# Altium integrated library TI Data Converters Analog to Digital Converter.IntLib: 2198 symbols (part 22 of 164)
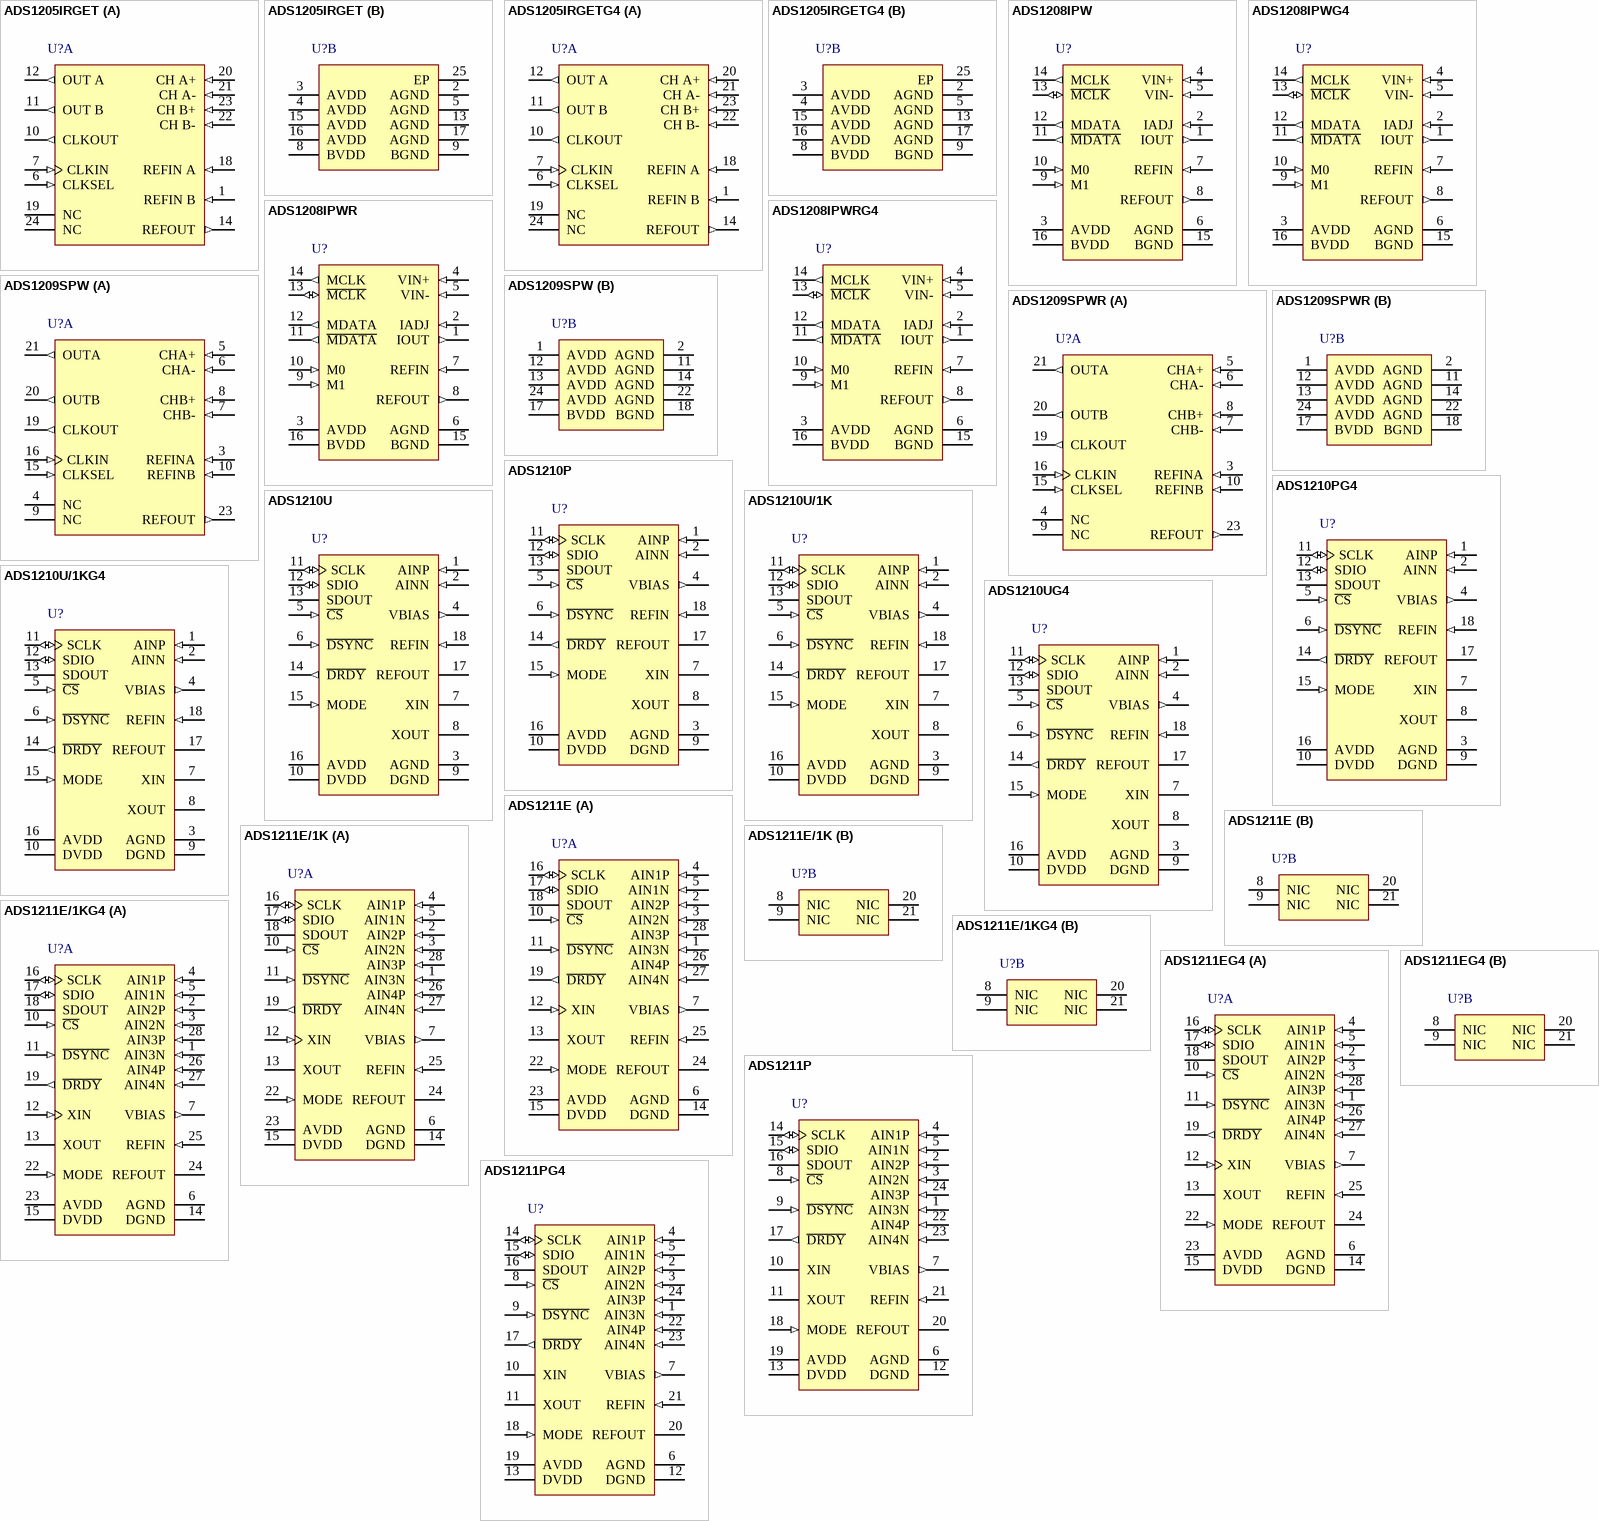
[diagram p147: symbols ADS1205IRGET to ADS1211PG4]

## ADS1208IPWG4
designator U?
10 MHz Modulator with Built in Current Excitation for Hall Sensor, -40 to 85 degC, 16-pin SOP (PW16), Green (RoHS & no Sb/Br); Manufacturer: Texas Instruments; PartNumber: ADS1208IPWG4; # Input Channels: 1; Analog Voltage AV/DD(Max)(V): 5.5; Analog Voltage AV/DD(Min)(V): 4.5; Architecture: Delta-Sigma, Modulator; Digital Supply(Min)(V): 2.7; INL(Max)(+/-LSB): 8; Resolution(Bits): 16; Sample Rate (max)(SPS): 40k; SFDR(dB): 93; SINAD(dB): 81.5; SNR(dB): 82; SubFamily: Precision ADC (<=10MSPS); DatasheetVersion: SBAS348A; PackageVersion: 4040064-4/G, 02/2011; PackageReference: PW16; PackageDescription: 16-Pin Plastic Small Outline, Body 5 x 4.4 mm, Pitch 0.65 mm; Supplier 1: Digi-Key; Supplier Part Number 1: TLV2556IDWRG4-ND; Digital Supply(Max)(V): 5.5; Eco-Plan: Green (RoHS & no Sb/Br); Mounting Technology: Surface Mount; Code_JEDEC: MO-153; ComponentLink1Description: Manufacturer URL; ComponentLink1URL: http://www.ti.com/; ComponentLink2Description: Datasheet; ComponentLink2URL: http://www.ti.com/general/docs/lit/getliterature.tsp?genericPartNumber=ADS1208&fileType=pdf; ComponentLink3Description: Package Specification; ComponentLink3URL: http://www.ti.com/lit/ml/mpds361/mpds361.pdf
footprint TI-PW16_N (SOP, 16-Leads, Body 5x4.4mm, Pitch 0.65mm, IPC Medium Density)
footprint TI-PW16_L (SOP, 16-Leads, Body 5x4.4mm, Pitch 0.65mm, IPC High Density)
footprint TI-PW16_M (SOP, 16-Leads, Body 5x4.4mm, Pitch 0.65mm, IPC Low Density)
pins: 1 IOUT (out) "Current output for sensor", 2 IADJ (in) "Output current adjustment", 3 AVDD (power) "Analog supply", 4 VIN+ (in) "Positive input", 5 VIN- (in) "Negative input", 6 AGND (power) "Analog ground", 7 REFIN (in) "Reference input", 8 REFOUT (out) "Reference output", 9 M1 (in) "Mode selection input", 10 M0 (in) "Mode selection input", 11 ~{MDATA} (out) "Inverted data output", 12 MDATA (out) "Noninverted data output", 13 ~{MCLK} (io) "Inverted clock output (Modes 0, 1); Clock input (Mode 3)", 14 MCLK (out) "Noninverted clock output", 15 BGND (power) "Digital interface ground", 16 BVDD (power) "Digital interface supply (2.7V to 5.5V)"

## ADS1208IPWR
designator U?
10 MHz Modulator with Built in Current Excitation for Hall Sensor, -40 to 85 degC, 16-pin SOP (PW16), Green (RoHS & no Sb/Br); Manufacturer: Texas Instruments; PartNumber: ADS1208IPWR; # Input Channels: 1; Analog Voltage AV/DD(Max)(V): 5.5; Analog Voltage AV/DD(Min)(V): 4.5; Architecture: Delta-Sigma, Modulator; Digital Supply(Min)(V): 2.7; INL(Max)(+/-LSB): 8; Resolution(Bits): 16; Sample Rate (max)(SPS): 40k; SFDR(dB): 93; SINAD(dB): 81.5; SNR(dB): 82; SubFamily: Precision ADC (<=10MSPS); DatasheetVersion: SBAS348A; PackageVersion: 4040064-4/G, 02/2011; PackageReference: PW16; PackageDescription: 16-Pin Plastic Small Outline, Body 5 x 4.4 mm, Pitch 0.65 mm; Supplier 1: Digi-Key; Supplier Part Number 1: 296-10296-5-ND; Digital Supply(Max)(V): 5.5; Eco-Plan: Green (RoHS & no Sb/Br); Mounting Technology: Surface Mount; Code_JEDEC: MO-153; ComponentLink1Description: Manufacturer URL; ComponentLink1URL: http://www.ti.com/; ComponentLink2Description: Datasheet; ComponentLink2URL: http://www.ti.com/general/docs/lit/getliterature.tsp?genericPartNumber=ADS1208&fileType=pdf; ComponentLink3Description: Package Specification; ComponentLink3URL: http://www.ti.com/lit/ml/mpds361/mpds361.pdf
footprint TI-PW16_N (SOP, 16-Leads, Body 5x4.4mm, Pitch 0.65mm, IPC Medium Density)
footprint TI-PW16_L (SOP, 16-Leads, Body 5x4.4mm, Pitch 0.65mm, IPC High Density)
footprint TI-PW16_M (SOP, 16-Leads, Body 5x4.4mm, Pitch 0.65mm, IPC Low Density)
pins: 1 IOUT (out) "Current output for sensor", 2 IADJ (in) "Output current adjustment", 3 AVDD (power) "Analog supply", 4 VIN+ (in) "Positive input", 5 VIN- (in) "Negative input", 6 AGND (power) "Analog ground", 7 REFIN (in) "Reference input", 8 REFOUT (out) "Reference output", 9 M1 (in) "Mode selection input", 10 M0 (in) "Mode selection input", 11 ~{MDATA} (out) "Inverted data output", 12 MDATA (out) "Noninverted data output", 13 ~{MCLK} (io) "Inverted clock output (Modes 0, 1); Clock input (Mode 3)", 14 MCLK (out) "Noninverted clock output", 15 BGND (power) "Digital interface ground", 16 BVDD (power) "Digital interface supply (2.7V to 5.5V)"

## ADS1208IPWRG4
designator U?
10 MHz Modulator with Built in Current Excitation for Hall Sensor, -40 to 85 degC, 16-pin SOP (PW16), Green (RoHS & no Sb/Br); Manufacturer: Texas Instruments; PartNumber: ADS1208IPWRG4; # Input Channels: 1; Analog Voltage AV/DD(Max)(V): 5.5; Analog Voltage AV/DD(Min)(V): 4.5; Architecture: Delta-Sigma, Modulator; Digital Supply(Min)(V): 2.7; INL(Max)(+/-LSB): 8; Resolution(Bits): 16; Sample Rate (max)(SPS): 40k; SFDR(dB): 93; SINAD(dB): 81.5; SNR(dB): 82; SubFamily: Precision ADC (<=10MSPS); DatasheetVersion: SBAS348A; PackageVersion: 4040064-4/G, 02/2011; PackageReference: PW16; PackageDescription: 16-Pin Plastic Small Outline, Body 5 x 4.4 mm, Pitch 0.65 mm; Supplier 1: Digi-Key; Supplier Part Number 1: TLC3574IDWG4-ND; Digital Supply(Max)(V): 5.5; Eco-Plan: Green (RoHS & no Sb/Br); Mounting Technology: Surface Mount; Code_JEDEC: MO-153; ComponentLink1Description: Manufacturer URL; ComponentLink1URL: http://www.ti.com/; ComponentLink2Description: Datasheet; ComponentLink2URL: http://www.ti.com/general/docs/lit/getliterature.tsp?genericPartNumber=ADS1208&fileType=pdf; ComponentLink3Description: Package Specification; ComponentLink3URL: http://www.ti.com/lit/ml/mpds361/mpds361.pdf
footprint TI-PW16_N (SOP, 16-Leads, Body 5x4.4mm, Pitch 0.65mm, IPC Medium Density)
footprint TI-PW16_L (SOP, 16-Leads, Body 5x4.4mm, Pitch 0.65mm, IPC High Density)
footprint TI-PW16_M (SOP, 16-Leads, Body 5x4.4mm, Pitch 0.65mm, IPC Low Density)
pins: 1 IOUT (out) "Current output for sensor", 2 IADJ (in) "Output current adjustment", 3 AVDD (power) "Analog supply", 4 VIN+ (in) "Positive input", 5 VIN- (in) "Negative input", 6 AGND (power) "Analog ground", 7 REFIN (in) "Reference input", 8 REFOUT (out) "Reference output", 9 M1 (in) "Mode selection input", 10 M0 (in) "Mode selection input", 11 ~{MDATA} (out) "Inverted data output", 12 MDATA (out) "Noninverted data output", 13 ~{MCLK} (io) "Inverted clock output (Modes 0, 1); Clock input (Mode 3)", 14 MCLK (out) "Noninverted clock output", 15 BGND (power) "Digital interface ground", 16 BVDD (power) "Digital interface supply (2.7V to 5.5V)"

## ADS1209SPW
designator U?
1-Bit, 10 MHz, 2nd-Order Delta-Sigma Modulators with +/- 2.3 V Specified Input Range, -40 to 105 degC, 24-pin SOP (PW24), Green (RoHS & no Sb/Br); Manufacturer: Texas Instruments; PartNumber: ADS1209SPW; # Input Channels: 2; Analog Voltage AV/DD(Max)(V): 5.5; Analog Voltage AV/DD(Min)(V): 4.5; Architecture: Delta-Sigma, Modulator; Digital Supply(Min)(V): 2.7; ENOB(Bits): 14; INL(Max)(+/-LSB): 8; Resolution(Bits): 16; Sample Rate (max)(SPS): 40k; SFDR(dB): 86; SINAD(dB): 84; SNR(dB): 90; SubFamily: Precision ADC (<=10MSPS); DatasheetVersion: SBAS491; PackageVersion: 4040064-6/G, 02/2011; PackageReference: PW24; PackageDescription: 24-Pin Plastic Small Outline, Body 7.8 x 4.4 mm, Pitch 0.65 mm; Supplier 1: Digi-Key; Supplier Part Number 1: 296-31963-2-ND; Digital Supply(Max)(V): 5.5; Eco-Plan: Green (RoHS & no Sb/Br); Mounting Technology: Surface Mount; Code_JEDEC: MO-153; ComponentLink1Description: Manufacturer URL; ComponentLink1URL: http://www.ti.com/; ComponentLink2Description: Datasheet; ComponentLink2URL: http://www.ti.com/general/docs/lit/getliterature.tsp?genericPartNumber=ADS1209&fileType=pdf; ComponentLink3Description: Package Specification; ComponentLink3URL: http://www.ti.com/litv/pdf/mpds363
footprint TI-PW24_N (SOP, 24-Leads, Body 7.8x4.4mm, Pitch 0.65mm, IPC Medium Density)
footprint TI-PW24_L (SOP, 24-Leads, Body 7.8x4.4mm, Pitch 0.65mm, IPC High Density)
footprint TI-PW24_M (SOP, 24-Leads, Body 7.8x4.4mm, Pitch 0.65mm, IPC Low Density)
part A pins: 3 REFINA (in) "Reference voltage input for channel A", 4 NC "This pin is not internally connected", 5 CHA+ (in) "Fully differential noninverting analog input channel A", 6 CHA- (in) "Fully differential inverting analog input channel A", 7 CHB- (in) "Fully differential inverting analog input channel B", 8 CHB+ (in) "Fully differential noninverting analog input channel B", 9 NC "This pin is not internally connected", 10 REFINB (in) "Reference voltage input for channel B", 15 CLKSEL (in) "Clock select input. When this pin is low, an external clock source at CLKIN is used. When high, the internal RC oscillator is used as clock source.", 16 CLKIN (in) "External clock input. Must be tied to BVDD or BGND, if not used.", 19 CLKOUT (out) "Bit stream clock output", 20 OUTB (out) "Bit stream data output of channel B modulator", 21 OUTA (out) "Bit stream data output of channel A modulator", 23 REFOUT (out) "Internal reference voltage output, nominal: 2.5V. Decouple to AGND with a 0.1uF ceramic capacitor."
part B pins: 1 AVDD (power) "Analog power supply; nominal 5V. Decouple to AGND with a 0.1uF ceramic capacitor.", 2 AGND (power) "Analog ground. Connect to analog ground plane.", 11 AGND (power) "Analog ground. Connect to analog ground plane.", 12 AVDD (power) "Analog power supply; nominal 5V. Decouple to AGND with a 0.1uF ceramic capacitor.", 13 AVDD (power) "Analog power supply; nominal 5V. Decouple to AGND with a 0.1uF ceramic capacitor.", 14 AGND (power) "Analog ground. Connect to analog ground plane.", 17 BVDD (power) "I/O buffer power supply, nominal: 3V. Decouple to BGND with a 0.1uF ceramic capacitor", 18 BGND (power) "I/O buffer ground. Connect to digital ground plane", 22 AGND (power) "Analog ground. Connect to analog ground plane.", 24 AVDD (power) "Analog power supply, nominal: 5V. Decouple to AGND with a 0.1uF ceramic capacitor."

## ADS1209SPWR
designator U?
1-Bit, 10 MHz, 2nd-Order Delta-Sigma Modulators with +/- 2.3 V Specified Input Range, -40 to 105 degC, 24-pin SOP (PW24), Green (RoHS & no Sb/Br); Manufacturer: Texas Instruments; PartNumber: ADS1209SPWR; # Input Channels: 2; Analog Voltage AV/DD(Max)(V): 5.5; Analog Voltage AV/DD(Min)(V): 4.5; Architecture: Delta-Sigma, Modulator; Digital Supply(Min)(V): 2.7; ENOB(Bits): 14; INL(Max)(+/-LSB): 8; Resolution(Bits): 16; Sample Rate (max)(SPS): 40k; SFDR(dB): 86; SINAD(dB): 84; SNR(dB): 90; SubFamily: Precision ADC (<=10MSPS); DatasheetVersion: SBAS491; PackageVersion: 4040064-6/G, 02/2011; PackageReference: PW24; PackageDescription: 24-Pin Plastic Small Outline, Body 7.8 x 4.4 mm, Pitch 0.65 mm; Supplier 1: Digi-Key; Supplier Part Number 1: TLC3574IDWRG4-ND; Digital Supply(Max)(V): 5.5; Eco-Plan: Green (RoHS & no Sb/Br); Mounting Technology: Surface Mount; Code_JEDEC: MO-153; ComponentLink1Description: Manufacturer URL; ComponentLink1URL: http://www.ti.com/; ComponentLink2Description: Datasheet; ComponentLink2URL: http://www.ti.com/general/docs/lit/getliterature.tsp?genericPartNumber=ADS1209&fileType=pdf; ComponentLink3Description: Package Specification; ComponentLink3URL: http://www.ti.com/litv/pdf/mpds363
footprint TI-PW24_N (SOP, 24-Leads, Body 7.8x4.4mm, Pitch 0.65mm, IPC Medium Density)
footprint TI-PW24_L (SOP, 24-Leads, Body 7.8x4.4mm, Pitch 0.65mm, IPC High Density)
footprint TI-PW24_M (SOP, 24-Leads, Body 7.8x4.4mm, Pitch 0.65mm, IPC Low Density)
part A pins: 3 REFINA (in) "Reference voltage input for channel A", 4 NC "This pin is not internally connected", 5 CHA+ (in) "Fully differential noninverting analog input channel A", 6 CHA- (in) "Fully differential inverting analog input channel A", 7 CHB- (in) "Fully differential inverting analog input channel B", 8 CHB+ (in) "Fully differential noninverting analog input channel B", 9 NC "This pin is not internally connected", 10 REFINB (in) "Reference voltage input for channel B", 15 CLKSEL (in) "Clock select input. When this pin is low, an external clock source at CLKIN is used. When high, the internal RC oscillator is used as clock source.", 16 CLKIN (in) "External clock input. Must be tied to BVDD or BGND, if not used.", 19 CLKOUT (out) "Bit stream clock output", 20 OUTB (out) "Bit stream data output of channel B modulator", 21 OUTA (out) "Bit stream data output of channel A modulator", 23 REFOUT (out) "Internal reference voltage output, nominal: 2.5V. Decouple to AGND with a 0.1uF ceramic capacitor."
part B pins: 1 AVDD (power) "Analog power supply; nominal 5V. Decouple to AGND with a 0.1uF ceramic capacitor.", 2 AGND (power) "Analog ground. Connect to analog ground plane.", 11 AGND (power) "Analog ground. Connect to analog ground plane.", 12 AVDD (power) "Analog power supply; nominal 5V. Decouple to AGND with a 0.1uF ceramic capacitor.", 13 AVDD (power) "Analog power supply; nominal 5V. Decouple to AGND with a 0.1uF ceramic capacitor.", 14 AGND (power) "Analog ground. Connect to analog ground plane.", 17 BVDD (power) "I/O buffer power supply, nominal: 3V. Decouple to BGND with a 0.1uF ceramic capacitor", 18 BGND (power) "I/O buffer ground. Connect to digital ground plane", 22 AGND (power) "Analog ground. Connect to analog ground plane.", 24 AVDD (power) "Analog power supply, nominal: 5V. Decouple to AGND with a 0.1uF ceramic capacitor."

## ADS1210P
designator U?
24-Bit ADC, -40 to 85 degC, 18-pin DIP (N18), Green (RoHS & no Sb/Br); Manufacturer: Texas Instruments; PartNumber: ADS1210P; # Input Channels: 1; Analog Voltage AV/DD(Max)(V): 5.25; Analog Voltage AV/DD(Min)(V): 4.75; Architecture: Delta-Sigma; Interface: Serial SPI; Resolution(Bits): 24; Sample Rate (max)(SPS): 16k; SubFamily: Isolated ADC; DatasheetVersion: SBAS034B; PackageVersion: 4040049/E, 12/2002; PackageReference: N18; PackageDescription: 18-Pin Plastic In-Line, Body 22.48 x 6.35 mm, Pitch 2.54 mm; Supplier 1: Digi-Key; Supplier Part Number 1: 296-10255-5-ND; Digital Supply(Max)(V): 5.25; Digital Supply(Min)(V): 4.75; Eco-Plan: Green (RoHS & no Sb/Br); Mounting Technology: Through Hole; Code_JEDEC: MS-001; ComponentLink1Description: Manufacturer URL; ComponentLink1URL: http://www.ti.com/; ComponentLink2Description: Datasheet; ComponentLink2URL: http://www.ti.com/general/docs/lit/getliterature.tsp?genericPartNumber=ADS1210&fileType=pdf; ComponentLink3Description: Package Specification; ComponentLink3URL: http://www.ti.com/lit/ml/mpdi002c/mpdi002c.pdf
footprint TI-N18 (DIP, 18-Leads, Body 22.48x6.35 mm, Pitch 2.54 mm)
pins: 1 AINP (in) "Noninverting Input.", 2 AINN (in) "Inverting Input.", 3 AGND (power) "Analog Ground.", 4 VBIAS (out) "Bias Voltage Output, +3.3V nominal.", 5 ~{CS} (in) "Chip Select Input.", 6 ~{DSYNC} (in) "Control Input to Synchronize Serial Output Data.", 7 XIN "System Clock Input.", 8 XOUT "System Clock Output.", 9 DGND (power) "Digital Ground.", 10 DVDD (power) "Digital Supply, +5V nominal.", 11 SCLK (io) "Clock Input/Output for serial data transfer.", 12 SDIO (io) "Serial Data Input (can also function as Serial Data Output).", 13 SDOUT (hiz) "Serial Data Output.", 14 ~{DRDY} (out) "Data Ready.", 15 MODE (in) "SCLK Control Input (Master = 1, Slave = 0).", 16 AVDD (power) "Analog Supply, +5V nominal.", 17 REFOUT (hiz) "Reference Output, +2.5V nominal.", 18 REFIN (in) "Reference Input."

## ADS1210PG4
designator U?
24-Bit ADC, -40 to 85 degC, 18-pin DIP (N18), Green (RoHS & no Sb/Br); Manufacturer: Texas Instruments; PartNumber: ADS1210PG4; # Input Channels: 1; Analog Voltage AV/DD(Max)(V): 5.25; Analog Voltage AV/DD(Min)(V): 4.75; Architecture: Delta-Sigma; Interface: Serial SPI; Resolution(Bits): 24; Sample Rate (max)(SPS): 16k; SubFamily: Isolated ADC; DatasheetVersion: SBAS034B; PackageVersion: 4040049/E, 12/2002; PackageReference: N18; PackageDescription: 18-Pin Plastic In-Line, Body 22.48 x 6.35 mm, Pitch 2.54 mm; Supplier 1: Digi-Key; Supplier Part Number 1: TLC2574IDWG4-ND; Digital Supply(Max)(V): 5.25; Digital Supply(Min)(V): 4.75; Eco-Plan: Green (RoHS & no Sb/Br); Mounting Technology: Through Hole; Code_JEDEC: MS-001; ComponentLink1Description: Manufacturer URL; ComponentLink1URL: http://www.ti.com/; ComponentLink2Description: Datasheet; ComponentLink2URL: http://www.ti.com/general/docs/lit/getliterature.tsp?genericPartNumber=ADS1210&fileType=pdf; ComponentLink3Description: Package Specification; ComponentLink3URL: http://www.ti.com/lit/ml/mpdi002c/mpdi002c.pdf
footprint TI-N18 (DIP, 18-Leads, Body 22.48x6.35 mm, Pitch 2.54 mm)
pins: 1 AINP (in) "Noninverting Input.", 2 AINN (in) "Inverting Input.", 3 AGND (power) "Analog Ground.", 4 VBIAS (out) "Bias Voltage Output, +3.3V nominal.", 5 ~{CS} (in) "Chip Select Input.", 6 ~{DSYNC} (in) "Control Input to Synchronize Serial Output Data.", 7 XIN "System Clock Input.", 8 XOUT "System Clock Output.", 9 DGND (power) "Digital Ground.", 10 DVDD (power) "Digital Supply, +5V nominal.", 11 SCLK (io) "Clock Input/Output for serial data transfer.", 12 SDIO (io) "Serial Data Input (can also function as Serial Data Output).", 13 SDOUT (hiz) "Serial Data Output.", 14 ~{DRDY} (out) "Data Ready.", 15 MODE (in) "SCLK Control Input (Master = 1, Slave = 0).", 16 AVDD (power) "Analog Supply, +5V nominal.", 17 REFOUT (hiz) "Reference Output, +2.5V nominal.", 18 REFIN (in) "Reference Input."

## ADS1210U
designator U?
24-Bit ADC, -40 to 85 degC, 18-pin SOP (DTC18), Green (RoHS & no Sb/Br); Manufacturer: Texas Instruments; PartNumber: ADS1210U; # Input Channels: 1; Analog Voltage AV/DD(Max)(V): 5.25; Analog Voltage AV/DD(Min)(V): 4.75; Architecture: Delta-Sigma; Interface: Serial SPI; Resolution(Bits): 24; Sample Rate (max)(SPS): 16k; SubFamily: Isolated ADC; DatasheetVersion: SBAS034B; PackageVersion: 4202498/A, 03/2001; PackageReference: DTC18; PackageDescription: 18-Pin Plastic Small Outline, Body 7.5 x 11.55 mm, Pitch 1.27 mm; Supplier 1: Digi-Key; Supplier Part Number 1: 296-34355-5-ND; Digital Supply(Max)(V): 5.25; Digital Supply(Min)(V): 4.75; Eco-Plan: Green (RoHS & no Sb/Br); Mounting Technology: Surface Mount; Code_JEDEC: MS-013-AB; ComponentLink1Description: Manufacturer URL; ComponentLink1URL: http://www.ti.com/; ComponentLink2Description: Datasheet; ComponentLink2URL: http://www.ti.com/general/docs/lit/getliterature.tsp?genericPartNumber=ADS1210&fileType=pdf; ComponentLink3Description: Package Specification; ComponentLink3URL: http://www.ti.com/litv/pdf/mpds095
footprint TI-DTC18_N (SOP, 18-Leads, Body 11.5x7.5mm, Pitch 1.27mm, IPC Medium Density)
footprint TI-DTC18_L (SOP, 18-Leads, Body 11.5x7.5mm, Pitch 1.27mm, IPC High Density)
footprint TI-DTC18_M (SOP, 18-Leads, Body 11.5x7.5mm, Pitch 1.27mm, IPC Low Density)
pins: 1 AINP (in) "Noninverting Input.", 2 AINN (in) "Inverting Input.", 3 AGND (power) "Analog Ground.", 4 VBIAS (out) "Bias Voltage Output, +3.3V nominal.", 5 ~{CS} (in) "Chip Select Input.", 6 ~{DSYNC} (in) "Control Input to Synchronize Serial Output Data.", 7 XIN "System Clock Input.", 8 XOUT "System Clock Output.", 9 DGND (power) "Digital Ground.", 10 DVDD (power) "Digital Supply, +5V nominal.", 11 SCLK (io) "Clock Input/Output for serial data transfer.", 12 SDIO (io) "Serial Data Input (can also function as Serial Data Output).", 13 SDOUT (hiz) "Serial Data Output.", 14 ~{DRDY} (out) "Data Ready.", 15 MODE (in) "SCLK Control Input (Master = 1, Slave = 0).", 16 AVDD (power) "Analog Supply, +5V nominal.", 17 REFOUT (hiz) "Reference Output, +2.5V nominal.", 18 REFIN (in) "Reference Input."

## ADS1210U/1K
designator U?
24-Bit ADC, -40 to 85 degC, 18-pin SOP (DTC18), Green (RoHS & no Sb/Br); Manufacturer: Texas Instruments; PartNumber: ADS1210U/1K; # Input Channels: 1; Analog Voltage AV/DD(Max)(V): 5.25; Analog Voltage AV/DD(Min)(V): 4.75; Architecture: Delta-Sigma; Interface: Serial SPI; Resolution(Bits): 24; Sample Rate (max)(SPS): 16k; SubFamily: Isolated ADC; DatasheetVersion: SBAS034B; PackageVersion: 4202498/A, 03/2001; PackageReference: DTC18; PackageDescription: 18-Pin Plastic Small Outline, Body 7.5 x 11.55 mm, Pitch 1.27 mm; Supplier 1: Digi-Key; Supplier Part Number 1: TLC3544CDWG4-ND; Digital Supply(Max)(V): 5.25; Digital Supply(Min)(V): 4.75; Eco-Plan: Green (RoHS & no Sb/Br); Mounting Technology: Surface Mount; Code_JEDEC: MS-013-AB; ComponentLink1Description: Manufacturer URL; ComponentLink1URL: http://www.ti.com/; ComponentLink2Description: Datasheet; ComponentLink2URL: http://www.ti.com/general/docs/lit/getliterature.tsp?genericPartNumber=ADS1210&fileType=pdf; ComponentLink3Description: Package Specification; ComponentLink3URL: http://www.ti.com/litv/pdf/mpds095
footprint TI-DTC18_N (SOP, 18-Leads, Body 11.5x7.5mm, Pitch 1.27mm, IPC Medium Density)
footprint TI-DTC18_L (SOP, 18-Leads, Body 11.5x7.5mm, Pitch 1.27mm, IPC High Density)
footprint TI-DTC18_M (SOP, 18-Leads, Body 11.5x7.5mm, Pitch 1.27mm, IPC Low Density)
pins: 1 AINP (in) "Noninverting Input.", 2 AINN (in) "Inverting Input.", 3 AGND (power) "Analog Ground.", 4 VBIAS (out) "Bias Voltage Output, +3.3V nominal.", 5 ~{CS} (in) "Chip Select Input.", 6 ~{DSYNC} (in) "Control Input to Synchronize Serial Output Data.", 7 XIN "System Clock Input.", 8 XOUT "System Clock Output.", 9 DGND (power) "Digital Ground.", 10 DVDD (power) "Digital Supply, +5V nominal.", 11 SCLK (io) "Clock Input/Output for serial data transfer.", 12 SDIO (io) "Serial Data Input (can also function as Serial Data Output).", 13 SDOUT (hiz) "Serial Data Output.", 14 ~{DRDY} (out) "Data Ready.", 15 MODE (in) "SCLK Control Input (Master = 1, Slave = 0).", 16 AVDD (power) "Analog Supply, +5V nominal.", 17 REFOUT (hiz) "Reference Output, +2.5V nominal.", 18 REFIN (in) "Reference Input."

## ADS1210U/1KG4
designator U?
24-Bit ADC, -40 to 85 degC, 18-pin SOP (DTC18), Green (RoHS & no Sb/Br); Manufacturer: Texas Instruments; PartNumber: ADS1210U/1KG4; # Input Channels: 1; Analog Voltage AV/DD(Max)(V): 5.25; Analog Voltage AV/DD(Min)(V): 4.75; Architecture: Delta-Sigma; Interface: Serial SPI; Resolution(Bits): 24; Sample Rate (max)(SPS): 16k; SubFamily: Isolated ADC; DatasheetVersion: SBAS034B; PackageVersion: 4202498/A, 03/2001; PackageReference: DTC18; PackageDescription: 18-Pin Plastic Small Outline, Body 7.5 x 11.55 mm, Pitch 1.27 mm; Supplier 1: Digi-Key; Supplier Part Number 1: 296-10288-5-ND; Digital Supply(Max)(V): 5.25; Digital Supply(Min)(V): 4.75; Eco-Plan: Green (RoHS & no Sb/Br); Mounting Technology: Surface Mount; Code_JEDEC: MS-013-AB; ComponentLink1Description: Manufacturer URL; ComponentLink1URL: http://www.ti.com/; ComponentLink2Description: Datasheet; ComponentLink2URL: http://www.ti.com/general/docs/lit/getliterature.tsp?genericPartNumber=ADS1210&fileType=pdf; ComponentLink3Description: Package Specification; ComponentLink3URL: http://www.ti.com/litv/pdf/mpds095
footprint TI-DTC18_N (SOP, 18-Leads, Body 11.5x7.5mm, Pitch 1.27mm, IPC Medium Density)
footprint TI-DTC18_L (SOP, 18-Leads, Body 11.5x7.5mm, Pitch 1.27mm, IPC High Density)
footprint TI-DTC18_M (SOP, 18-Leads, Body 11.5x7.5mm, Pitch 1.27mm, IPC Low Density)
pins: 1 AINP (in) "Noninverting Input.", 2 AINN (in) "Inverting Input.", 3 AGND (power) "Analog Ground.", 4 VBIAS (out) "Bias Voltage Output, +3.3V nominal.", 5 ~{CS} (in) "Chip Select Input.", 6 ~{DSYNC} (in) "Control Input to Synchronize Serial Output Data.", 7 XIN "System Clock Input.", 8 XOUT "System Clock Output.", 9 DGND (power) "Digital Ground.", 10 DVDD (power) "Digital Supply, +5V nominal.", 11 SCLK (io) "Clock Input/Output for serial data transfer.", 12 SDIO (io) "Serial Data Input (can also function as Serial Data Output).", 13 SDOUT (hiz) "Serial Data Output.", 14 ~{DRDY} (out) "Data Ready.", 15 MODE (in) "SCLK Control Input (Master = 1, Slave = 0).", 16 AVDD (power) "Analog Supply, +5V nominal.", 17 REFOUT (hiz) "Reference Output, +2.5V nominal.", 18 REFIN (in) "Reference Input."

## ADS1210UG4
designator U?
24-Bit ADC, -40 to 85 degC, 18-pin SOP (DTC18), Green (RoHS & no Sb/Br); Manufacturer: Texas Instruments; PartNumber: ADS1210UG4; # Input Channels: 1; Analog Voltage AV/DD(Max)(V): 5.25; Analog Voltage AV/DD(Min)(V): 4.75; Architecture: Delta-Sigma; Interface: Serial SPI; Resolution(Bits): 24; Sample Rate (max)(SPS): 16k; SubFamily: Isolated ADC; DatasheetVersion: SBAS034B; PackageVersion: 4202498/A, 03/2001; PackageReference: DTC18; PackageDescription: 18-Pin Plastic Small Outline, Body 7.5 x 11.55 mm, Pitch 1.27 mm; Supplier 1: Digi-Key; Supplier Part Number 1: TLC3544IDWG4-ND; Digital Supply(Max)(V): 5.25; Digital Supply(Min)(V): 4.75; Eco-Plan: Green (RoHS & no Sb/Br); Mounting Technology: Surface Mount; Code_JEDEC: MS-013-AB; ComponentLink1Description: Manufacturer URL; ComponentLink1URL: http://www.ti.com/; ComponentLink2Description: Datasheet; ComponentLink2URL: http://www.ti.com/general/docs/lit/getliterature.tsp?genericPartNumber=ADS1210&fileType=pdf; ComponentLink3Description: Package Specification; ComponentLink3URL: http://www.ti.com/litv/pdf/mpds095
footprint TI-DTC18_N (SOP, 18-Leads, Body 11.5x7.5mm, Pitch 1.27mm, IPC Medium Density)
footprint TI-DTC18_L (SOP, 18-Leads, Body 11.5x7.5mm, Pitch 1.27mm, IPC High Density)
footprint TI-DTC18_M (SOP, 18-Leads, Body 11.5x7.5mm, Pitch 1.27mm, IPC Low Density)
pins: 1 AINP (in) "Noninverting Input.", 2 AINN (in) "Inverting Input.", 3 AGND (power) "Analog Ground.", 4 VBIAS (out) "Bias Voltage Output, +3.3V nominal.", 5 ~{CS} (in) "Chip Select Input.", 6 ~{DSYNC} (in) "Control Input to Synchronize Serial Output Data.", 7 XIN "System Clock Input.", 8 XOUT "System Clock Output.", 9 DGND (power) "Digital Ground.", 10 DVDD (power) "Digital Supply, +5V nominal.", 11 SCLK (io) "Clock Input/Output for serial data transfer.", 12 SDIO (io) "Serial Data Input (can also function as Serial Data Output).", 13 SDOUT (hiz) "Serial Data Output.", 14 ~{DRDY} (out) "Data Ready.", 15 MODE (in) "SCLK Control Input (Master = 1, Slave = 0).", 16 AVDD (power) "Analog Supply, +5V nominal.", 17 REFOUT (hiz) "Reference Output, +2.5V nominal.", 18 REFIN (in) "Reference Input."

## ADS1211E
designator U?
24-Bit ADC, -40 to 85 degC, 28-pin SOP (DB28), Green (RoHS & no Sb/Br); Manufacturer: Texas Instruments; PartNumber: ADS1211E; # Input Channels: 4; Analog Voltage AV/DD(Max)(V): 5.25; Analog Voltage AV/DD(Min)(V): 4.75; Architecture: Delta-Sigma; Interface: Serial SPI; Resolution(Bits): 24; Sample Rate (max)(SPS): 16k; SubFamily: Precision ADC (<=10MSPS); DatasheetVersion: SBAS034B; PackageVersion: 4040065/E, 12/2001; PackageReference: DB28; PackageDescription: 28-Pin Plastic Small Outline, Body 10.2 X 5.3 mm, Pitch 0.65 mm; Supplier 1: Digi-Key; Supplier Part Number 1: 296-2181-5-ND; Digital Supply(Max)(V): 5.25; Digital Supply(Min)(V): 4.75; Eco-Plan: Green (RoHS & no Sb/Br); Mounting Technology: Surface Mount; Code_JEDEC: MO-150; ComponentLink1Description: Manufacturer URL; ComponentLink1URL: http://www.ti.com/; ComponentLink2Description: Datasheet; ComponentLink2URL: http://www.ti.com/general/docs/lit/getliterature.tsp?genericPartNumber=ADS1211&fileType=pdf; ComponentLink3Description: Package Specification; ComponentLink3URL: http://www.ti.com/lit/ml/msso002e/msso002e.pdf
footprint TI-DB28_N (SOP, 28-Leads, Body 10.2x5.3mm, Pitch 0.65mm, IPC Medium Density)
footprint TI-DB28_L (SOP, 28-Leads, Body 10.2x5.3mm, Pitch 0.65mm, IPC High Density)
footprint TI-DB28_M (SOP, 28-Leads, Body 10.2x5.3mm, Pitch 0.65mm, IPC Low Density)
part A pins: 1 AIN3N (in) "Inverting Input Channel 3.", 2 AIN2P (in) "Noninverting Input Channel 2.", 3 AIN2N (in) "Inverting Input Channel 2.", 4 AIN1P (in) "Noninverting Input Channel 1.", 5 AIN1N (in) "Inverting Input Channel 1.", 6 AGND (power) "Analog Ground.", 7 VBIAS (out) "Bias Voltage Output, +3.3V nominal.", 10 ~{CS} (in) "Chip Select Input.", 11 ~{DSYNC} (in) "Control Input to Synchronize Serial Output Data.", 12 XIN (in) "System Clock Input.", 13 XOUT "System Clock Output (for Crystal or Resonator).", 14 DGND (power) "Digital Ground.", 15 DVDD (power) "Digital Supply, +5V nominal.", 16 SCLK (io) "Clock Input/Output for serial data transfer.", 17 SDIO (io) "Serial Data Input (can also function as Data Serial Output).", 18 SDOUT (hiz) "Serial Data Output.", 19 ~{DRDY} (out) "Data Ready.", 22 MODE (in) "SCLK Control Input (Master = 1, Slave = 0).", 23 AVDD (power) "Analog Supply, +5V nominal.", 24 REFOUT (hiz) "Reference Output: +2.5V nominal.", 25 REFIN (in) "Reference Input.", 26 AIN4P (in) "Noninverting Input Channel 4.", 27 AIN4N (in) "Inverting Input Channel 4.", 28 AIN3P (in) "Noninverting Input Channel 3."
part B pins: 8 NIC "Not Internally Connected.", 9 NIC "Not Internally Connected.", 20 NIC "Not Internally Connected.", 21 NIC "Not Internally Connected."

## ADS1211E/1K
designator U?
24-Bit ADC, -40 to 85 degC, 28-pin SOP (DB28), Green (RoHS & no Sb/Br); Manufacturer: Texas Instruments; PartNumber: ADS1211E/1K; # Input Channels: 4; Analog Voltage AV/DD(Max)(V): 5.25; Analog Voltage AV/DD(Min)(V): 4.75; Architecture: Delta-Sigma; Interface: Serial SPI; Resolution(Bits): 24; Sample Rate (max)(SPS): 16k; SubFamily: Precision ADC (<=10MSPS); DatasheetVersion: SBAS034B; PackageVersion: 4040065/E, 12/2001; PackageReference: DB28; PackageDescription: 28-Pin Plastic Small Outline, Body 10.2 X 5.3 mm, Pitch 0.65 mm; Supplier 1: Digi-Key; Supplier Part Number 1: TLC1518IDWG4-ND; Digital Supply(Max)(V): 5.25; Digital Supply(Min)(V): 4.75; Eco-Plan: Green (RoHS & no Sb/Br); Mounting Technology: Surface Mount; Code_JEDEC: MO-150; ComponentLink1Description: Manufacturer URL; ComponentLink1URL: http://www.ti.com/; ComponentLink2Description: Datasheet; ComponentLink2URL: http://www.ti.com/general/docs/lit/getliterature.tsp?genericPartNumber=ADS1211&fileType=pdf; ComponentLink3Description: Package Specification; ComponentLink3URL: http://www.ti.com/lit/ml/msso002e/msso002e.pdf
footprint TI-DB28_N (SOP, 28-Leads, Body 10.2x5.3mm, Pitch 0.65mm, IPC Medium Density)
footprint TI-DB28_L (SOP, 28-Leads, Body 10.2x5.3mm, Pitch 0.65mm, IPC High Density)
footprint TI-DB28_M (SOP, 28-Leads, Body 10.2x5.3mm, Pitch 0.65mm, IPC Low Density)
part A pins: 1 AIN3N (in) "Inverting Input Channel 3.", 2 AIN2P (in) "Noninverting Input Channel 2.", 3 AIN2N (in) "Inverting Input Channel 2.", 4 AIN1P (in) "Noninverting Input Channel 1.", 5 AIN1N (in) "Inverting Input Channel 1.", 6 AGND (power) "Analog Ground.", 7 VBIAS (out) "Bias Voltage Output, +3.3V nominal.", 10 ~{CS} (in) "Chip Select Input.", 11 ~{DSYNC} (in) "Control Input to Synchronize Serial Output Data.", 12 XIN (in) "System Clock Input.", 13 XOUT "System Clock Output (for Crystal or Resonator).", 14 DGND (power) "Digital Ground.", 15 DVDD (power) "Digital Supply, +5V nominal.", 16 SCLK (io) "Clock Input/Output for serial data transfer.", 17 SDIO (io) "Serial Data Input (can also function as Data Serial Output).", 18 SDOUT (hiz) "Serial Data Output.", 19 ~{DRDY} (out) "Data Ready.", 22 MODE (in) "SCLK Control Input (Master = 1, Slave = 0).", 23 AVDD (power) "Analog Supply, +5V nominal.", 24 REFOUT (hiz) "Reference Output: +2.5V nominal.", 25 REFIN (in) "Reference Input.", 26 AIN4P (in) "Noninverting Input Channel 4.", 27 AIN4N (in) "Inverting Input Channel 4.", 28 AIN3P (in) "Noninverting Input Channel 3."
part B pins: 8 NIC "Not Internally Connected.", 9 NIC "Not Internally Connected.", 20 NIC "Not Internally Connected.", 21 NIC "Not Internally Connected."

## ADS1211E/1KG4
designator U?
24-Bit ADC, -40 to 85 degC, 28-pin SOP (DB28), Green (RoHS & no Sb/Br); Manufacturer: Texas Instruments; PartNumber: ADS1211E/1KG4; # Input Channels: 4; Analog Voltage AV/DD(Max)(V): 5.25; Analog Voltage AV/DD(Min)(V): 4.75; Architecture: Delta-Sigma; Interface: Serial SPI; Resolution(Bits): 24; Sample Rate (max)(SPS): 16k; SubFamily: Precision ADC (<=10MSPS); DatasheetVersion: SBAS034B; PackageVersion: 4040065/E, 12/2001; PackageReference: DB28; PackageDescription: 28-Pin Plastic Small Outline, Body 10.2 X 5.3 mm, Pitch 0.65 mm; Supplier 1: Digi-Key; Supplier Part Number 1: 296-2192-5-ND; Digital Supply(Max)(V): 5.25; Digital Supply(Min)(V): 4.75; Eco-Plan: Green (RoHS & no Sb/Br); Mounting Technology: Surface Mount; Code_JEDEC: MO-150; ComponentLink1Description: Manufacturer URL; ComponentLink1URL: http://www.ti.com/; ComponentLink2Description: Datasheet; ComponentLink2URL: http://www.ti.com/general/docs/lit/getliterature.tsp?genericPartNumber=ADS1211&fileType=pdf; ComponentLink3Description: Package Specification; ComponentLink3URL: http://www.ti.com/lit/ml/msso002e/msso002e.pdf
footprint TI-DB28_N (SOP, 28-Leads, Body 10.2x5.3mm, Pitch 0.65mm, IPC Medium Density)
footprint TI-DB28_L (SOP, 28-Leads, Body 10.2x5.3mm, Pitch 0.65mm, IPC High Density)
footprint TI-DB28_M (SOP, 28-Leads, Body 10.2x5.3mm, Pitch 0.65mm, IPC Low Density)
part A pins: 1 AIN3N (in) "Inverting Input Channel 3.", 2 AIN2P (in) "Noninverting Input Channel 2.", 3 AIN2N (in) "Inverting Input Channel 2.", 4 AIN1P (in) "Noninverting Input Channel 1.", 5 AIN1N (in) "Inverting Input Channel 1.", 6 AGND (power) "Analog Ground.", 7 VBIAS (out) "Bias Voltage Output, +3.3V nominal.", 10 ~{CS} (in) "Chip Select Input.", 11 ~{DSYNC} (in) "Control Input to Synchronize Serial Output Data.", 12 XIN (in) "System Clock Input.", 13 XOUT "System Clock Output (for Crystal or Resonator).", 14 DGND (power) "Digital Ground.", 15 DVDD (power) "Digital Supply, +5V nominal.", 16 SCLK (io) "Clock Input/Output for serial data transfer.", 17 SDIO (io) "Serial Data Input (can also function as Data Serial Output).", 18 SDOUT (hiz) "Serial Data Output.", 19 ~{DRDY} (out) "Data Ready.", 22 MODE (in) "SCLK Control Input (Master = 1, Slave = 0).", 23 AVDD (power) "Analog Supply, +5V nominal.", 24 REFOUT (hiz) "Reference Output: +2.5V nominal.", 25 REFIN (in) "Reference Input.", 26 AIN4P (in) "Noninverting Input Channel 4.", 27 AIN4N (in) "Inverting Input Channel 4.", 28 AIN3P (in) "Noninverting Input Channel 3."
part B pins: 8 NIC "Not Internally Connected.", 9 NIC "Not Internally Connected.", 20 NIC "Not Internally Connected.", 21 NIC "Not Internally Connected."

## ADS1211EG4
designator U?
24-Bit ADC, -40 to 85 degC, 28-pin SOP (DB28), Green (RoHS & no Sb/Br); Manufacturer: Texas Instruments; PartNumber: ADS1211EG4; # Input Channels: 4; Analog Voltage AV/DD(Max)(V): 5.25; Analog Voltage AV/DD(Min)(V): 4.75; Architecture: Delta-Sigma; Interface: Serial SPI; Resolution(Bits): 24; Sample Rate (max)(SPS): 16k; SubFamily: Precision ADC (<=10MSPS); DatasheetVersion: SBAS034B; PackageVersion: 4040065/E, 12/2001; PackageReference: DB28; PackageDescription: 28-Pin Plastic Small Outline, Body 10.2 X 5.3 mm, Pitch 0.65 mm; Supplier 1: Digi-Key; Supplier Part Number 1: TLV1508IDWG4-ND; Digital Supply(Max)(V): 5.25; Digital Supply(Min)(V): 4.75; Eco-Plan: Green (RoHS & no Sb/Br); Mounting Technology: Surface Mount; Code_JEDEC: MO-150; ComponentLink1Description: Manufacturer URL; ComponentLink1URL: http://www.ti.com/; ComponentLink2Description: Datasheet; ComponentLink2URL: http://www.ti.com/general/docs/lit/getliterature.tsp?genericPartNumber=ADS1211&fileType=pdf; ComponentLink3Description: Package Specification; ComponentLink3URL: http://www.ti.com/lit/ml/msso002e/msso002e.pdf
footprint TI-DB28_N (SOP, 28-Leads, Body 10.2x5.3mm, Pitch 0.65mm, IPC Medium Density)
footprint TI-DB28_L (SOP, 28-Leads, Body 10.2x5.3mm, Pitch 0.65mm, IPC High Density)
footprint TI-DB28_M (SOP, 28-Leads, Body 10.2x5.3mm, Pitch 0.65mm, IPC Low Density)
part A pins: 1 AIN3N (in) "Inverting Input Channel 3.", 2 AIN2P (in) "Noninverting Input Channel 2.", 3 AIN2N (in) "Inverting Input Channel 2.", 4 AIN1P (in) "Noninverting Input Channel 1.", 5 AIN1N (in) "Inverting Input Channel 1.", 6 AGND (power) "Analog Ground.", 7 VBIAS (out) "Bias Voltage Output, +3.3V nominal.", 10 ~{CS} (in) "Chip Select Input.", 11 ~{DSYNC} (in) "Control Input to Synchronize Serial Output Data.", 12 XIN (in) "System Clock Input.", 13 XOUT "System Clock Output (for Crystal or Resonator).", 14 DGND (power) "Digital Ground.", 15 DVDD (power) "Digital Supply, +5V nominal.", 16 SCLK (io) "Clock Input/Output for serial data transfer.", 17 SDIO (io) "Serial Data Input (can also function as Data Serial Output).", 18 SDOUT (hiz) "Serial Data Output.", 19 ~{DRDY} (out) "Data Ready.", 22 MODE (in) "SCLK Control Input (Master = 1, Slave = 0).", 23 AVDD (power) "Analog Supply, +5V nominal.", 24 REFOUT (hiz) "Reference Output: +2.5V nominal.", 25 REFIN (in) "Reference Input.", 26 AIN4P (in) "Noninverting Input Channel 4.", 27 AIN4N (in) "Inverting Input Channel 4.", 28 AIN3P (in) "Noninverting Input Channel 3."
part B pins: 8 NIC "Not Internally Connected.", 9 NIC "Not Internally Connected.", 20 NIC "Not Internally Connected.", 21 NIC "Not Internally Connected."

## ADS1211P
designator U?
24-Bit ADC, -40 to 85 degC, 24-pin DIP (NT24), Green (RoHS & no Sb/Br); Manufacturer: Texas Instruments; PartNumber: ADS1211P; # Input Channels: 4; Analog Voltage AV/DD(Max)(V): 5.25; Analog Voltage AV/DD(Min)(V): 4.75; Architecture: Delta-Sigma; Interface: Serial SPI; Resolution(Bits): 24; Sample Rate (max)(SPS): 16k; SubFamily: Precision ADC (<=10MSPS); DatasheetVersion: SBAS034B; PackageVersion: 4040050/C, 04/2009; PackageReference: NT24; PackageDescription: 24-Pin Plastic Dual-In-Line Package, Body 31.64 x 6.73 mm, Pitch 2.54 mm; Supplier 1: Digi-Key; Supplier Part Number 1: 296-34345-5-ND; Digital Supply(Max)(V): 5.25; Digital Supply(Min)(V): 4.75; Eco-Plan: Green (RoHS & no Sb/Br); Mounting Technology: Through Hole; ComponentLink1Description: Manufacturer URL; ComponentLink1URL: http://www.ti.com/; ComponentLink2Description: Datasheet; ComponentLink2URL: http://www.ti.com/general/docs/lit/getliterature.tsp?genericPartNumber=ADS1211&fileType=pdf; ComponentLink3Description: Package Specification; ComponentLink3URL: http://www.ti.com/litv/pdf/mpdi004a
footprint TI-NT24 (DIP, 24-Leads, Body 31.64x6.73mm, Pitch 2.54mm)
pins: 1 AIN3N (in) "Inverting Input Channel 3.", 2 AIN2P (in) "Noninverting Input Channel 2.", 3 AIN2N (in) "Inverting Input Channel 2.", 4 AIN1P (in) "Noninverting Input Channel 1.", 5 AIN1N (in) "Inverting Input Channel 1.", 6 AGND (power) "Analog Ground.", 7 VBIAS (out) "Bias Voltage Output, +3.3V nominal.", 8 ~{CS} (in) "Chip Select Input.", 9 ~{DSYNC} (in) "Control Input to Synchronize Serial Output Data.", 10 XIN "System Clock Input.", 11 XOUT "System Clock Output.", 12 DGND (power) "Digital Ground.", 13 DVDD (power) "Digital Supply, +5V nominal.", 14 SCLK (io) "Clock Input/Output for serial data transfer.", 15 SDIO (io) "Serial Data Input (can also function as Serial Data Output).", 16 SDOUT (hiz) "Serial Data Output.", 17 ~{DRDY} (out) "Data Ready.", 18 MODE (in) "SCLK Control Input (Master = 1, Slave = 0).", 19 AVDD (power) "Analog Supply, +5V nominal.", 20 REFOUT (hiz) "Reference Output: +2.5V nominal.", 21 REFIN (in) "Reference Input.", 22 AIN4P (in) "Noninverting Input Channel 4.", 23 AIN4N (in) "Inverting Input Channel 4.", 24 AIN3P (in) "Noninverting Input Channel 3."

## ADS1211PG4
designator U?
24-Bit ADC, -40 to 85 degC, 24-pin DIP (NT24), Green (RoHS & no Sb/Br); Manufacturer: Texas Instruments; PartNumber: ADS1211PG4; # Input Channels: 4; Analog Voltage AV/DD(Max)(V): 5.25; Analog Voltage AV/DD(Min)(V): 4.75; Architecture: Delta-Sigma; Interface: Serial SPI; Resolution(Bits): 24; Sample Rate (max)(SPS): 16k; SubFamily: Precision ADC (<=10MSPS); DatasheetVersion: SBAS034B; PackageVersion: 4040050/C, 04/2009; PackageReference: NT24; PackageDescription: 24-Pin Plastic Dual-In-Line Package, Body 31.64 x 6.73 mm, Pitch 2.54 mm; Supplier 1: Digi-Key; Supplier Part Number 1: TLC2558CDWG4-ND; Digital Supply(Max)(V): 5.25; Digital Supply(Min)(V): 4.75; Eco-Plan: Green (RoHS & no Sb/Br); Mounting Technology: Through Hole; ComponentLink1Description: Manufacturer URL; ComponentLink1URL: http://www.ti.com/; ComponentLink2Description: Datasheet; ComponentLink2URL: http://www.ti.com/general/docs/lit/getliterature.tsp?genericPartNumber=ADS1211&fileType=pdf; ComponentLink3Description: Package Specification; ComponentLink3URL: http://www.ti.com/litv/pdf/mpdi004a
footprint TI-NT24 (DIP, 24-Leads, Body 31.64x6.73mm, Pitch 2.54mm)
pins: 1 AIN3N (in) "Inverting Input Channel 3.", 2 AIN2P (in) "Noninverting Input Channel 2.", 3 AIN2N (in) "Inverting Input Channel 2.", 4 AIN1P (in) "Noninverting Input Channel 1.", 5 AIN1N (in) "Inverting Input Channel 1.", 6 AGND (power) "Analog Ground.", 7 VBIAS (out) "Bias Voltage Output, +3.3V nominal.", 8 ~{CS} (in) "Chip Select Input.", 9 ~{DSYNC} (in) "Control Input to Synchronize Serial Output Data.", 10 XIN "System Clock Input.", 11 XOUT "System Clock Output.", 12 DGND (power) "Digital Ground.", 13 DVDD (power) "Digital Supply, +5V nominal.", 14 SCLK (io) "Clock Input/Output for serial data transfer.", 15 SDIO (io) "Serial Data Input (can also function as Serial Data Output).", 16 SDOUT (hiz) "Serial Data Output.", 17 ~{DRDY} (out) "Data Ready.", 18 MODE (in) "SCLK Control Input (Master = 1, Slave = 0).", 19 AVDD (power) "Analog Supply, +5V nominal.", 20 REFOUT (hiz) "Reference Output: +2.5V nominal.", 21 REFIN (in) "Reference Input.", 22 AIN4P (in) "Noninverting Input Channel 4.", 23 AIN4N (in) "Inverting Input Channel 4.", 24 AIN3P (in) "Noninverting Input Channel 3."

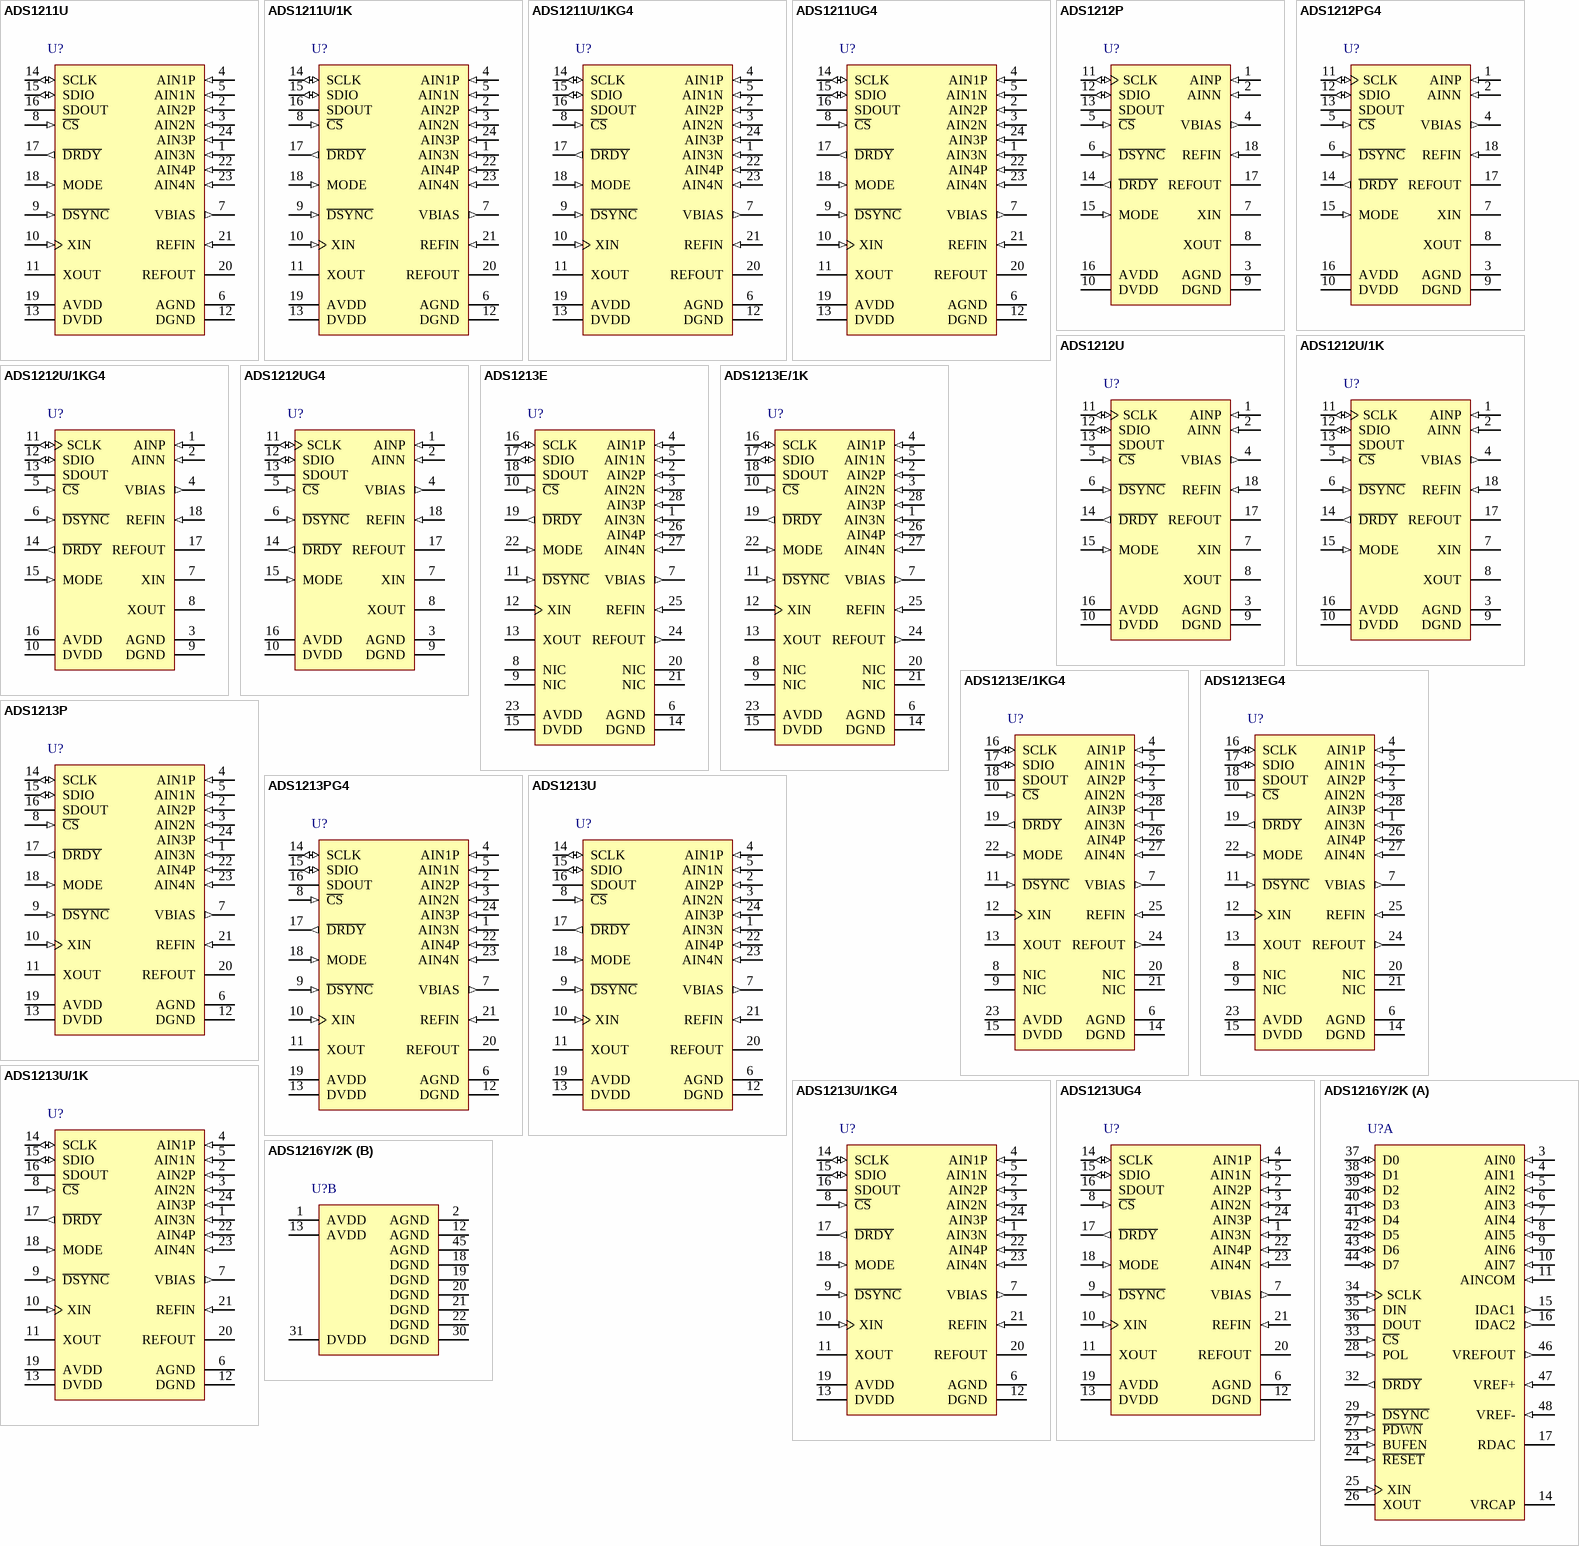
[diagram p18: symbols ADS1211U to ADS1216Y/2K]

## ADS1211U
designator U?
24-Bit ADC, -40 to 85 degC, 24-pin SOIC (DW24), Green (RoHS & no Sb/Br); Manufacturer: Texas Instruments; PartNumber: ADS1211U; # Input Channels: 4; Analog Voltage AV/DD(Max)(V): 5.25; Analog Voltage AV/DD(Min)(V): 4.75; Architecture: Delta-Sigma; Interface: Serial SPI; Resolution(Bits): 24; Sample Rate (max)(SPS): 16k; SubFamily: Precision ADC (<=10MSPS); DatasheetVersion: SBAS034B; PackageVersion: 4040000-5/G, 01/2011; PackageReference: DW24; PackageDescription: 24-Pin Plastic Small Outline, Body 15.4 x 7.5 mm, Pitch 1.27 mm; Supplier 1: Digi-Key; Supplier Part Number 1: 296-2917-5-ND; Digital Supply(Max)(V): 5.25; Digital Supply(Min)(V): 4.75; Eco-Plan: Green (RoHS & no Sb/Br); Mounting Technology: Surface Mount; Code_JEDEC: MS-013; ComponentLink1Description: Manufacturer URL; ComponentLink1URL: http://www.ti.com/; ComponentLink2Description: Datasheet; ComponentLink2URL: http://www.ti.com/general/docs/lit/getliterature.tsp?genericPartNumber=ADS1211&fileType=pdf; ComponentLink3Description: Package Specification; ComponentLink3URL: http://www.ti.com/litv/pdf/mpds174a
footprint TI-DW24_N (SOIC, 24-Leads, Body 15.4x7.5mm, Pitch 1.27mm, IPC Medium Density)
footprint TI-DW24_L (SOIC, 24-Leads, Body 15.4x7.5mm, Pitch 1.27mm, IPC High Density)
footprint TI-DW24_M (SOIC, 24-Leads, Body 15.4x7.5mm, Pitch 1.27mm, IPC Low Density)
pins: 1 AIN3N (in) "Inverting Input Channel 3.", 2 AIN2P (in) "Noninverting Input Channel 2.", 3 AIN2N (in) "Inverting Input Channel 2.", 4 AIN1P (in) "Noninverting Input Channel 1.", 5 AIN1N (in) "Inverting Input Channel 1.", 6 AGND (power) "Analog Ground.", 7 VBIAS (out) "Bias Voltage Output, +3.3V nominal.", 8 ~{CS} (in) "Chip Select Input.", 9 ~{DSYNC} (in) "Control Input to Synchronize Serial Output Data.", 10 XIN (in) "System Clock Input.", 11 XOUT "System Clock Output.", 12 DGND (power) "Digital Ground.", 13 DVDD (power) "Digital Supply, +5V nominal.", 14 SCLK (io) "Clock Input/Output for serial data transfer.", 15 SDIO (io) "Serial Data Input (can also function as Serial Data Output).", 16 SDOUT (hiz) "Serial Data Output.", 17 ~{DRDY} (out) "Data Ready.", 18 MODE (in) "SCLK Control Input (Master = 1, Slave = 0).", 19 AVDD (power) "Analog Supply, +5V nominal.", 20 REFOUT (hiz) "Reference Output: +2.5V nominal.", 21 REFIN (in) "Reference Input.", 22 AIN4P (in) "Noninverting Input Channel 4.", 23 AIN4N (in) "Inverting Input Channel 4.", 24 AIN3P (in) "Noninverting Input Channel 3."

## ADS1211U/1K
designator U?
24-Bit ADC, -40 to 85 degC, 24-pin SOIC (DW24), Green (RoHS & no Sb/Br); Manufacturer: Texas Instruments; PartNumber: ADS1211U/1K; # Input Channels: 4; Analog Voltage AV/DD(Max)(V): 5.25; Analog Voltage AV/DD(Min)(V): 4.75; Architecture: Delta-Sigma; Interface: Serial SPI; Resolution(Bits): 24; Sample Rate (max)(SPS): 16k; SubFamily: Precision ADC (<=10MSPS); DatasheetVersion: SBAS034B; PackageVersion: 4040000-5/G, 01/2011; PackageReference: DW24; PackageDescription: 24-Pin Plastic Small Outline, Body 15.4 x 7.5 mm, Pitch 1.27 mm; Supplier 1: Digi-Key; Supplier Part Number 1: TLC2558IDWG4-ND; Digital Supply(Max)(V): 5.25; Digital Supply(Min)(V): 4.75; Eco-Plan: Green (RoHS & no Sb/Br); Mounting Technology: Surface Mount; Code_JEDEC: MS-013; ComponentLink1Description: Manufacturer URL; ComponentLink1URL: http://www.ti.com/; ComponentLink2Description: Datasheet; ComponentLink2URL: http://www.ti.com/general/docs/lit/getliterature.tsp?genericPartNumber=ADS1211&fileType=pdf; ComponentLink3Description: Package Specification; ComponentLink3URL: http://www.ti.com/litv/pdf/mpds174a
footprint TI-DW24_N (SOIC, 24-Leads, Body 15.4x7.5mm, Pitch 1.27mm, IPC Medium Density)
footprint TI-DW24_L (SOIC, 24-Leads, Body 15.4x7.5mm, Pitch 1.27mm, IPC High Density)
footprint TI-DW24_M (SOIC, 24-Leads, Body 15.4x7.5mm, Pitch 1.27mm, IPC Low Density)
pins: 1 AIN3N (in) "Inverting Input Channel 3.", 2 AIN2P (in) "Noninverting Input Channel 2.", 3 AIN2N (in) "Inverting Input Channel 2.", 4 AIN1P (in) "Noninverting Input Channel 1.", 5 AIN1N (in) "Inverting Input Channel 1.", 6 AGND (power) "Analog Ground.", 7 VBIAS (out) "Bias Voltage Output, +3.3V nominal.", 8 ~{CS} (in) "Chip Select Input.", 9 ~{DSYNC} (in) "Control Input to Synchronize Serial Output Data.", 10 XIN (in) "System Clock Input.", 11 XOUT "System Clock Output.", 12 DGND (power) "Digital Ground.", 13 DVDD (power) "Digital Supply, +5V nominal.", 14 SCLK (io) "Clock Input/Output for serial data transfer.", 15 SDIO (io) "Serial Data Input (can also function as Serial Data Output).", 16 SDOUT (hiz) "Serial Data Output.", 17 ~{DRDY} (out) "Data Ready.", 18 MODE (in) "SCLK Control Input (Master = 1, Slave = 0).", 19 AVDD (power) "Analog Supply, +5V nominal.", 20 REFOUT (hiz) "Reference Output: +2.5V nominal.", 21 REFIN (in) "Reference Input.", 22 AIN4P (in) "Noninverting Input Channel 4.", 23 AIN4N (in) "Inverting Input Channel 4.", 24 AIN3P (in) "Noninverting Input Channel 3."

## ADS1211U/1KG4
designator U?
24-Bit ADC, -40 to 85 degC, 24-pin SOIC (DW24), Green (RoHS & no Sb/Br); Manufacturer: Texas Instruments; PartNumber: ADS1211U/1KG4; # Input Channels: 4; Analog Voltage AV/DD(Max)(V): 5.25; Analog Voltage AV/DD(Min)(V): 4.75; Architecture: Delta-Sigma; Interface: Serial SPI; Resolution(Bits): 24; Sample Rate (max)(SPS): 16k; SubFamily: Precision ADC (<=10MSPS); DatasheetVersion: SBAS034B; PackageVersion: 4040000-5/G, 01/2011; PackageReference: DW24; PackageDescription: 24-Pin Plastic Small Outline, Body 15.4 x 7.5 mm, Pitch 1.27 mm; Supplier 1: Digi-Key; Supplier Part Number 1: 296-24032-2-ND; Digital Supply(Max)(V): 5.25; Digital Supply(Min)(V): 4.75; Eco-Plan: Green (RoHS & no Sb/Br); Mounting Technology: Surface Mount; Code_JEDEC: MS-013; ComponentLink1Description: Manufacturer URL; ComponentLink1URL: http://www.ti.com/; ComponentLink2Description: Datasheet; ComponentLink2URL: http://www.ti.com/general/docs/lit/getliterature.tsp?genericPartNumber=ADS1211&fileType=pdf; ComponentLink3Description: Package Specification; ComponentLink3URL: http://www.ti.com/litv/pdf/mpds174a
footprint TI-DW24_N (SOIC, 24-Leads, Body 15.4x7.5mm, Pitch 1.27mm, IPC Medium Density)
footprint TI-DW24_L (SOIC, 24-Leads, Body 15.4x7.5mm, Pitch 1.27mm, IPC High Density)
footprint TI-DW24_M (SOIC, 24-Leads, Body 15.4x7.5mm, Pitch 1.27mm, IPC Low Density)
pins: 1 AIN3N (in) "Inverting Input Channel 3.", 2 AIN2P (in) "Noninverting Input Channel 2.", 3 AIN2N (in) "Inverting Input Channel 2.", 4 AIN1P (in) "Noninverting Input Channel 1.", 5 AIN1N (in) "Inverting Input Channel 1.", 6 AGND (power) "Analog Ground.", 7 VBIAS (out) "Bias Voltage Output, +3.3V nominal.", 8 ~{CS} (in) "Chip Select Input.", 9 ~{DSYNC} (in) "Control Input to Synchronize Serial Output Data.", 10 XIN (in) "System Clock Input.", 11 XOUT "System Clock Output.", 12 DGND (power) "Digital Ground.", 13 DVDD (power) "Digital Supply, +5V nominal.", 14 SCLK (io) "Clock Input/Output for serial data transfer.", 15 SDIO (io) "Serial Data Input (can also function as Serial Data Output).", 16 SDOUT (hiz) "Serial Data Output.", 17 ~{DRDY} (out) "Data Ready.", 18 MODE (in) "SCLK Control Input (Master = 1, Slave = 0).", 19 AVDD (power) "Analog Supply, +5V nominal.", 20 REFOUT (hiz) "Reference Output: +2.5V nominal.", 21 REFIN (in) "Reference Input.", 22 AIN4P (in) "Noninverting Input Channel 4.", 23 AIN4N (in) "Inverting Input Channel 4.", 24 AIN3P (in) "Noninverting Input Channel 3."